# Altium footprint library WL-SISW.PcbLib: 5 footprints
Each footprint in its own frame and in the unit in brackets; x right, y up, seen from the top. Pads: shape width x height; smd on the part's side, far side on the other; paste and mask are expansions set on the pad; w line width, h text height; cw(c..) or ccw(c..) is an arc to the next point about the centre after c.
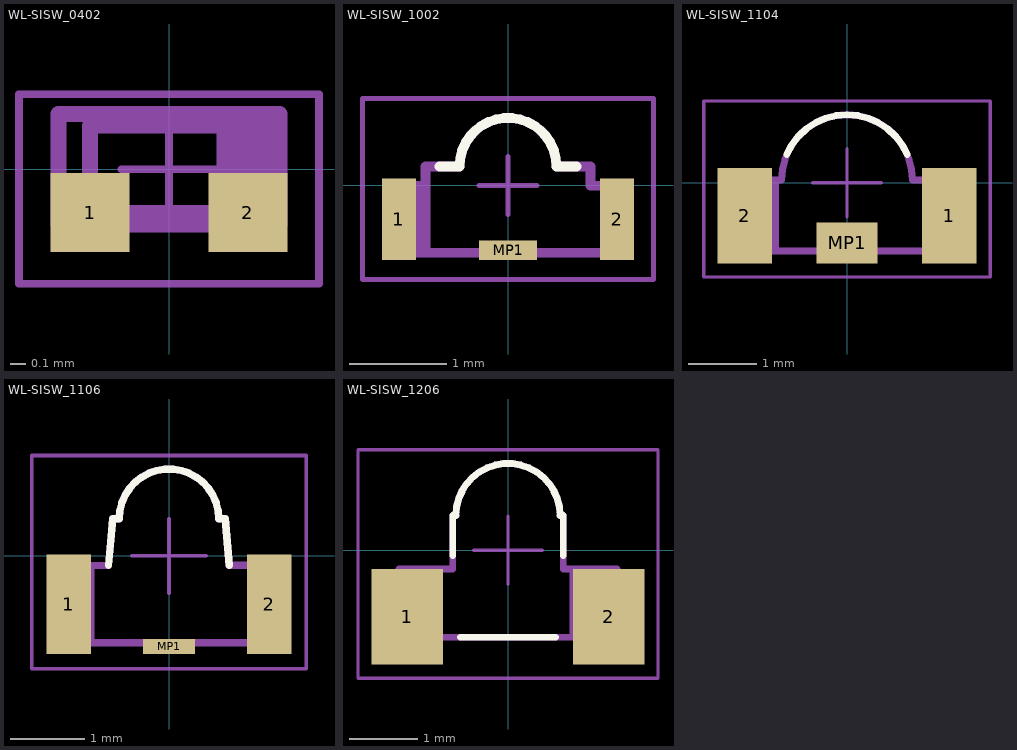
[diagram p0: the footprints below, top view; thin cyan lines are the x and y axes]

## WL-SISW_0402 [mm] "SMT Infrared Sideview LED Waterclear, body 1x0.55mm"
height 0.3
pads (2):
  rect 0.5x0.5 smd: 1(-0.5,-0.275) 2(0.5,-0.275)
Top Designator:
  text ".Designator" at -2.499,-0.167 h0.5
Top Component Outline:
  rectangle: 0.4,-0.35 0.7,0.35
  lines w0.1: -0.7,-0.35 -0.7,0.35 0.7,0.35 0.7,-0.35 -0.7,-0.35
Top 3D Body:
  rectangle: 0.3,-0.275 0.5,0.275
  lines w0.1: -0.5,-0.275 0.5,-0.275 0.5,0.275 -0.5,0.275 -0.5,-0.275
Top Courtyard:
  lines w0.05: -0.3,0 0.3,0 ; 0,-0.3 0,0.3 ; -0.95,-0.725 -0.95,0.475 0.95,0.475 0.95,-0.725 -0.95,-0.725
3D body "154040xxBA470.stp": height 0.3, standoff 0, extent -0.5,-0.275 0.5,0.275

## WL-SISW_1002 [mm] "SMT Infrared Sideview LED Waterclear, body 2.4x1.39mm"
height 0.6
pads (3):
  rect 0.35x0.84 smd: 1(-1.125,-0.35) 2(1.125,-0.35)
  rect 0.6x0.2 smd: MP1(0,-0.67)
Top Overlay:
  lines w0.1: -0.705,0.195 -0.5,0.195 cw(c0,0.195) 0.5,0.195 0.705,0.195
Top Designator:
  text ".Designator" at -2.499,-0.167 h0.5
Top Component Outline:
  rectangle: -1.2,-0.695 -0.8,-0.005
  lines w0.1: -1.2,-0.695 -1.2,-0.005 -0.85,-0.005 -0.85,0.195 -0.5,0.195 cw(c0,0.195) 0.5,0.195 0.85,0.195 0.85,-0.005 1.2,-0.005 1.2,-0.695 -1.2,-0.695
Top 3D Body:
  rectangle: -1.2,-0.695 -0.8,-0.005
  lines w0.1: -1.2,-0.695 1.2,-0.695 1.2,-0.005 0.85,-0.005 0.85,0.195 0.5,0.195 ccw(c0,0.195) -0.5,0.195 -0.85,0.195 -0.85,-0.005 -1.2,-0.005 -1.2,-0.695
Top Courtyard:
  lines w0.05: -0.3,0 0.3,0 ; 0,-0.3 0,0.3 ; -1.5,-0.97 -1.5,0.895 1.5,0.895 1.5,-0.97 -1.5,-0.97
3D body "15410xx5AAx70.stp": height 0.6, standoff 0, extent -1.2,-0.695 1.2,0.695

## WL-SISW_1104 [mm] "SMD Infrared Sideview LED Waterclear, body 3x2mm"
height 1
pads (3):
  rect 0.8x1.4 smd: 1(1.5,-0.48) 2(-1.5,-0.48)
  rect 0.9x0.6 smd: MP1(0,-0.88)
Top Overlay:
  lines w0.1: -0.884,0.413 cw(c0,0.04) 0.884,0.413
Top Designator:
  text ".Designator" at -3.499,-0.233 h0.7
Top Component Outline:
  rectangle: -1.5,-1 -1,0.04
  lines w0.1: -1.5,-1 1.5,-1 1.5,0.04 0.96,0.04 ccw(c0,0.04) -0.96,0.04 -1.5,0.04 -1.5,-1
Top 3D Body:
  rectangle: -1.5,-1 -1,0.04
  lines w0.1: -1.5,-1 -1.5,0.04 -0.96,0.04 cw(c0,0.04) 0.96,0.04 1.5,0.04 1.5,-1 -1.5,-1
Top Courtyard:
  lines w0.05: -0.5,0 0.5,0 ; 0,-0.5 0,0.5 ; -2.1,-1.38 -2.1,1.2 2.1,1.2 2.1,-1.38 -2.1,-1.38
3D body "15411485xxx.stp": height 1.03, standoff 0.03, extent -1.5,-1 1.5,1

## WL-SISW_1106 [mm] "SMD Infrared Sideview LED Waterclear, body 3x2.34mm"
height 1.6
pads (3):
  rect 0.6x1.34 smd: 1(-1.35,-0.65) 2(1.35,-0.65)
  rect 0.7x0.2 smd: MP1(0,-1.22)
Top Overlay:
  lines w0.1: -0.815,-0.13 -0.758,0.497 -0.673,0.497 ; -0.67,0.5 cw(c0,0.5) 0.67,0.5 0.755,0.5 0.812,-0.127
Top Designator:
  text ".Designator" at -3.499,-0.233 h0.7
Top Component Outline:
  rectangle: -1.5,-1.2 -1,-0.13
  lines w0.1: -0.673,0.497 -0.758,0.497 -0.815,-0.13 -1.5,-0.13 -1.5,-1.17 1.5,-1.17 1.5,-0.13 ; -0.67,0.5 cw(c0,0.5) 0.67,0.5 0.755,0.5 0.812,-0.127 1.497,-0.127
Top 3D Body:
  rectangle: -1.5,-1.2 -1,-0.13
  lines w0.1: -0.673,0.497 -0.758,0.497 -0.815,-0.13 -1.5,-0.13 -1.5,-1.17 1.5,-1.17 1.5,-0.13 ; -0.67,0.5 cw(c0,0.5) 0.67,0.5 0.755,0.5 0.812,-0.127 1.497,-0.127
Top Courtyard:
  lines w0.05: -0.5,0 0.5,0 ; 0,-0.5 0,0.5 ; -1.85,-1.52 1.85,-1.52 1.85,1.35 -1.85,1.35 -1.85,-1.52
3D body "154110xxAxx70.stp": height 1.6, standoff 0, extent -1.5,-1.17 1.5,1.17

## WL-SISW_1206 [mm] "SMD Infrared Sideview LED Waterclear, body 3.2x2.55mm"
height 1.6
pads (2):
  rect 1.05x1.4 smd: 1(-1.475,-0.975) 2(1.475,-0.975)
Top Overlay:
  lines w0.1: -0.81,-0.075 -0.81,0.51 -0.765,0.51 cw(c0,0.51) 0.765,0.51 0.81,0.51 0.81,-0.075 ; -0.7,-1.275 0.7,-1.275
Top Designator:
  text ".Designator" at -3.499,-0.233 h0.7
Top Component Outline:
  rectangle: 0.9,-1.275 1.6,-0.275
  lines w0.1: -1.6,-1.275 -1.6,-0.275 -0.81,-0.275 -0.81,0.51 -0.765,0.51 cw(c0,0.51) 0.765,0.51 0.81,0.51 0.81,-0.275 1.6,-0.275 1.6,-1.275 -1.6,-1.275
Top 3D Body:
  lines w0.1: -1.6,-1.275 1.6,-1.275 1.6,-0.275 0.81,-0.275 0.81,0.51 0.765,0.51 ccw(c0,0.51) -0.765,0.51 -0.81,0.51 -0.81,-0.275 -1.6,-0.275 -1.6,-1.275
Top Courtyard:
  lines w0.05: -0.5,0 0.5,0 ; 0,-0.5 0,0.5 ; -2.2,-1.875 -2.2,1.475 2.2,1.475 2.2,-1.875 -2.2,-1.875
3D body "154120xxA2070.stp": height 1.6, standoff 0, extent -1.6,-1.275 1.6,0.581